# Altium footprint library Footprints.PcbLib: 96 footprints (part 4 of 6)
Each footprint in its own frame and in the unit in brackets; x right, y up, seen from the top. Pads: shape width x height; smd on the part's side, far side on the other; paste and mask are expansions set on the pad; w line width, h text height; cw(c..) or ccw(c..) is an arc to the next point about the centre after c.
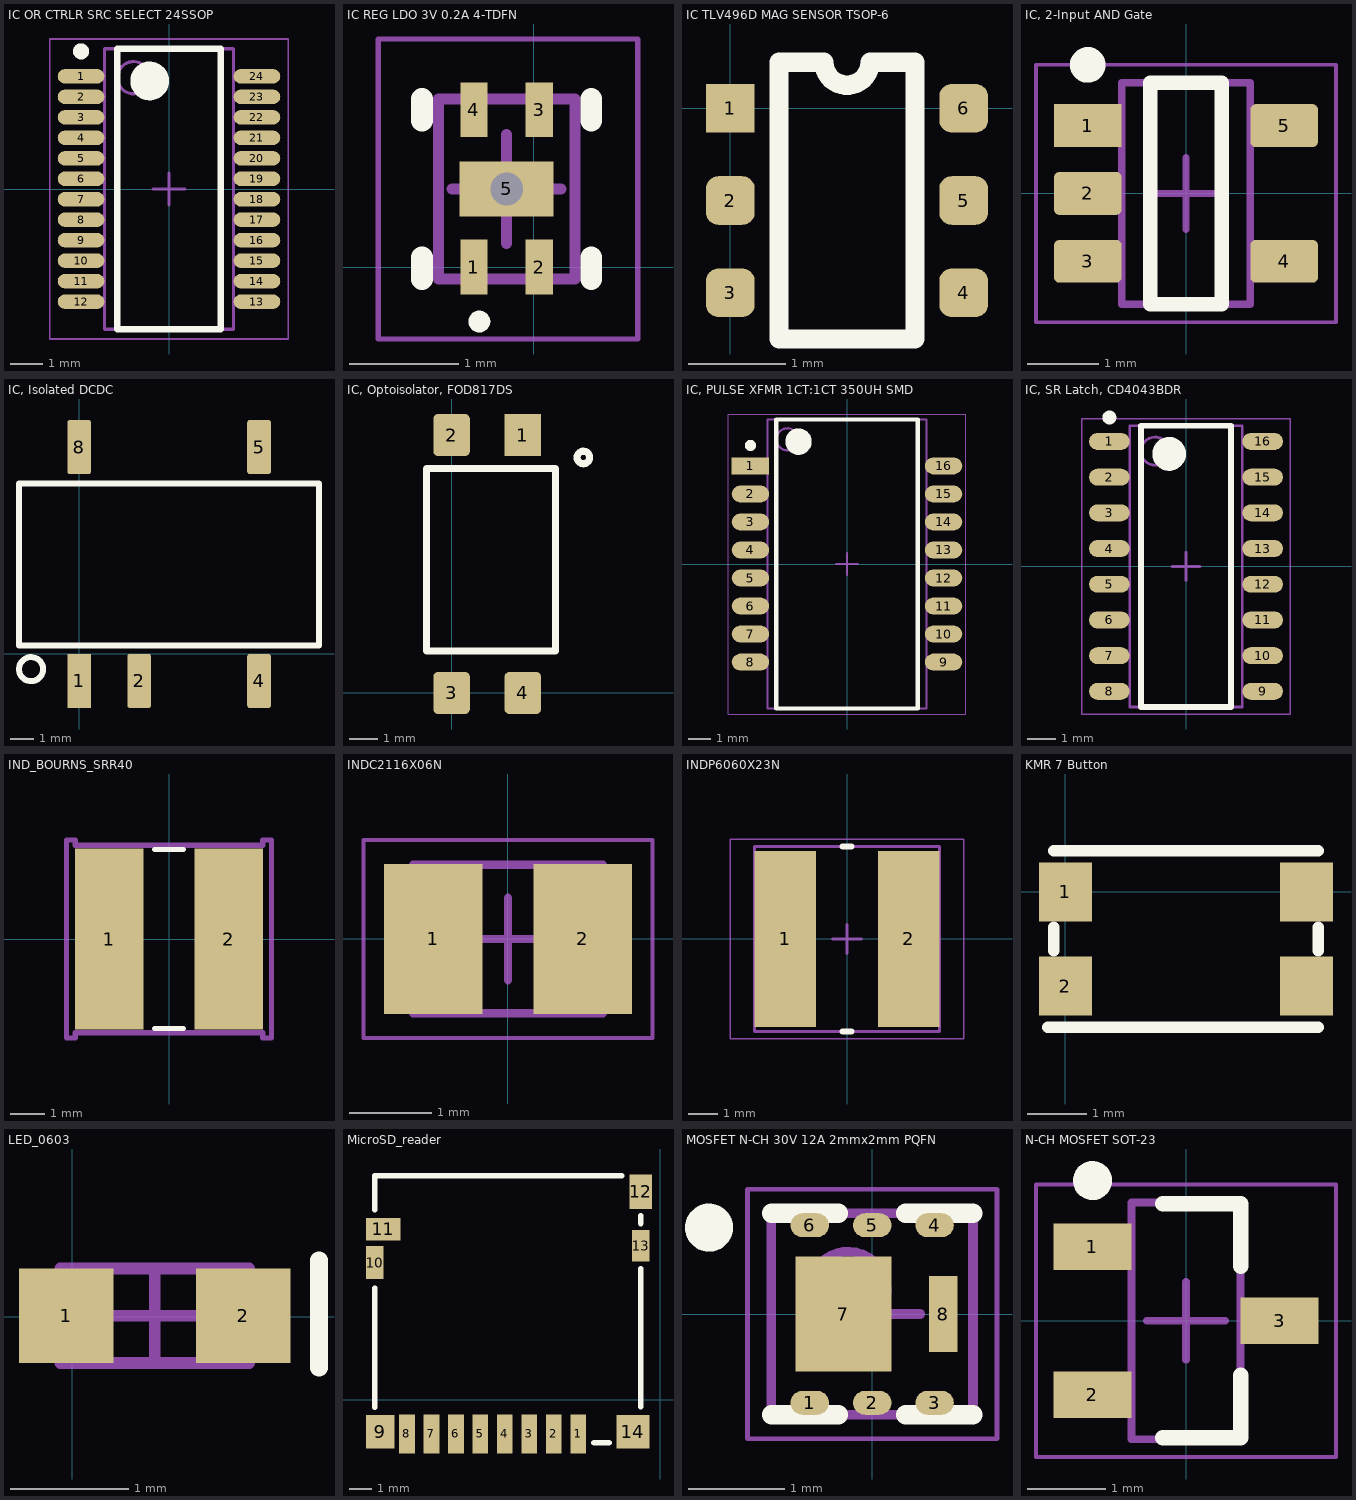
[diagram p3: the footprints below, top view; thin cyan lines are the x and y axes]

## IC OR CTRLR SRC SELECT 24SSOP [mm] "LTC4417"
height 1.75
pads (24):
  oval 1.45x0.45 smd: 1(-2.725,3.492) 2(-2.725,2.857) 3(-2.725,2.222) 4(-2.725,1.587) 5(-2.725,0.953) 6(-2.725,0.318) 7(-2.725,-0.318) 8(-2.725,-0.953) 9(-2.725,-1.587) 10(-2.725,-2.222) 11(-2.725,-2.857) 12(-2.725,-3.492) 13(2.725,-3.492) 14(2.725,-2.857) 15(2.725,-2.222) 16(2.725,-1.587) 17(2.725,-0.953) 18(2.725,-0.318) 19(2.725,0.318) 20(2.725,0.953) 21(2.725,1.587) 22(2.725,2.222) 23(2.725,2.857) 24(2.725,3.492)
Top Overlay:
  circle w0.6: c-0.6,3.35 r0.3
  circle w0.25: c-2.725,4.267 r0.125
  lines w0.2: -1.6,-4.35 1.6,-4.35 1.6,4.35 -1.6,4.35 -1.6,-4.35
Mechanical 13:
  circle w0.1: c-1.1,3.45 r0.5
  lines w0.1: -2,-4.35 2,-4.35 2,4.35 -2,4.35 -2,-4.35
Mechanical 15:
  lines w0.05: -3.7,-4.65 3.7,-4.65 3.7,4.65 -3.7,4.65 -3.7,-4.65
  lines w0.1: -0.5,0 0.5,0 ; 0,-0.5 0,0.5
3D body "IC OR CTRLR SRC SELECT 24SSOP.step": height 1.75, standoff 0, extent -3.004,-4.35 3.004,4.35

## IC REG LDO 3V 0.2A 4-TDFN [mm] "QFN, 4-Leads, Body 1.20x1.60mm, Pitch 0.50mm/1.40mm, Thermal Pad 0.86x0.50mm, IPC Medium Density"
height 0.6
pads (5):
  rect 0.25x0.5 smd: 1(-0.55,0) 2(0.05,0) 3(0.05,1.44) 4(-0.55,1.44)
  rect 0.86x0.5 smd: 5(-0.25,0.715)
via -0.25,0.715 diameter 0.35 hole 0.3
Top Overlay:
  circle w0.1: c-0.5,-0.5 r0.05
  lines w0.2: -1.025,-0.11 -1.025,0.09 ; -1.025,1.34 -1.025,1.54 ; 0.525,-0.11 0.525,0.09 ; 0.525,1.34 0.525,1.54
Mechanical 13:
  lines w0.1: -0.875,-0.11 0.375,-0.11 0.375,1.54 -0.875,1.54 -0.875,-0.11
Mechanical 15:
  lines w0.05: -1.425,-0.66 0.95,-0.66 0.95,2.09 -1.425,2.09 -1.425,-0.66
  lines w0.1: -0.75,0.715 0.25,0.715 ; -0.25,0.215 -0.25,1.215
3D body "IC REG LDO 3V 0.2A 4-TDFN.step": height 0.6, standoff 0, extent -0.875,-0.111 0.375,1.541

## IC TLV496D MAG SENSOR TSOP-6 [mm]
pads (6):
  rect 0.5x0.5 smd: 1(0,0)
  rrect50% 0.5x0.5 smd: 2(0,-0.95) 3(0,-1.9) 4(2.4,-1.9) 5(2.4,-0.95) 6(2.4,0)
Top Overlay:
  lines w0.2: 0.5,-2.375 1.9,-2.375 1.9,0.475 1.438,0.475 cw(c1.2,0.475) 0.962,0.475 0.5,0.475 0.5,-2.375

## IC, 2-Input AND Gate [mm] "IC GATE AND 1CH 2-INP 5-SSOP"
height 1.25
pads (5):
  rect 0.95x0.6 smd: 1(-1.375,0.95)
  rrect25% 0.95x0.6 smd: 2(-1.375,0) 3(-1.375,-0.95) 4(1.375,-0.95) 5(1.375,0.95)
Top Overlay:
  circle w0.25: c-1.375,1.8 r0.125
  lines w0.2: -0.5,-1.55 -0.5,1.55 0.5,1.55 0.5,-1.55 -0.5,-1.55
Mechanical 13:
  lines w0.1: -0.9,-1.55 -0.9,1.55 0.9,1.55 0.9,-1.55 -0.9,-1.55
Mechanical 15:
  lines w0.05: -2.1,-1.8 -2.1,1.8 2.1,1.8 2.1,-1.8 -2.1,-1.8
  lines w0.1: -0.5,0 0.5,0 ; 0,-0.5 0,0.5
3D body: height 1.25, standoff 0, extent -0.899,-1.549 0.899,1.549

## IC, Isolated DCDC [mm]
pads (5):
  rect 1x2.29 smd: 1(0,-1.15)
  rrect20% 1x2.29 smd: 2(2.54,-1.15) 4(7.62,-1.15) 5(7.62,8.76) 8(0,8.76)
Top Overlay:
  circle w0.254: c-2.04,-0.65 r0.51
  lines w0.254: -2.54,0.35 -2.54,7.22 10.16,7.22 10.16,0.35 -2.54,0.35
3D body: height 7, standoff 0.25, extent -2.539,0.351 10.159,7.219

## IC, Optoisolator, FOD817DS [mm]
pads (4):
  rect 1.3x1.5 smd: 1(2.54,9.2)
  rrect25% 1.3x1.5 smd: 2(0,9.2) 3(0,0) 4(2.54,0)
Top Overlay:
  circle w0.254: c4.7,8.4 r0.224
  lines w0.254: -0.9,1.5 3.7,1.5 3.7,8 -0.9,8 -0.9,1.5
3D body: height 3.5, standoff 0.85, extent -0.899,1.501 3.699,7.999

## IC, PULSE XFMR 1CT:1CT 350UH SMD [mm] "PULSE XFMR 1CT:1CT 350UH SMD"
height 5.9
pads (16):
  rect 1.7x0.76 smd: 1(-4.375,4.445)
  oval 1.7x0.76 smd: 2(-4.375,3.175) 3(-4.375,1.905) 4(-4.375,0.635) 5(-4.375,-0.635) 6(-4.375,-1.905) 7(-4.375,-3.175) 8(-4.375,-4.445) 9(4.375,-4.445) 10(4.375,-3.175) 11(4.375,-1.905) 12(4.375,-0.635) 13(4.375,0.635) 14(4.375,1.905) 15(4.375,3.175) 16(4.375,4.445)
Top Overlay:
  circle w0.25: c-4.375,5.375 r0.125
  circle w0.6: c-2.2,5.55 r0.3
  lines w0.2: -3.2,-6.55 -3.2,6.55 3.2,6.55 3.2,-6.55 -3.2,-6.55
Mechanical 13:
  circle w0.1: c-2.7,5.65 r0.5
  lines w0.1: -3.6,-6.55 -3.6,6.55 3.6,6.55 3.6,-6.55 -3.6,-6.55
Mechanical 15:
  lines w0.05: -5.375,-6.8 -5.375,6.8 5.375,6.8 5.375,-6.8 -5.375,-6.8
  lines w0.1: -0.5,0 0.5,0 ; 0,-0.5 0,0.5
3D body "1CT 350UH SMD.step": height 5.9, standoff 0, extent -4.65,-6.55 4.65,6.55

## IC, SR Latch, CD4043BDR [mm] "SR LATCH"
height 1.75
pads (16):
  oval 1.45x0.6 smd: 1(-2.725,4.445) 2(-2.725,3.175) 3(-2.725,1.905) 4(-2.725,0.635) 5(-2.725,-0.635) 6(-2.725,-1.905) 7(-2.725,-3.175) 8(-2.725,-4.445) 9(2.725,-4.445) 10(2.725,-3.175) 11(2.725,-1.905) 12(2.725,-0.635) 13(2.725,0.635) 14(2.725,1.905) 15(2.725,3.175) 16(2.725,4.445)
Top Overlay:
  circle w0.25: c-2.725,5.295 r0.125
  circle w0.6: c-0.6,4 r0.3
  lines w0.2: -1.6,-5 -1.6,5 1.6,5 1.6,-5 -1.6,-5
Mechanical 13:
  circle w0.1: c-1.1,4.1 r0.5
  lines w0.1: -2,-5 -2,5 2,5 2,-5 -2,-5
Mechanical 15:
  lines w0.05: -3.7,-5.25 -3.7,5.25 3.7,5.25 3.7,-5.25 -3.7,-5.25
  lines w0.1: -0.5,0 0.5,0 ; 0,-0.5 0,0.5
3D body: height 1.75, standoff 0.1, extent -2,-5 2,5

## IND_BOURNS_SRR40 [mil]
pads (2):
  rect 79x209 smd: 1(-69,0) 2(69,0)
Top Overlay:
  lines w6: -16.4,-103.5 16.4,-103.5 ; -16.4,103.5 16.4,103.5
Mechanical 13:
  circle w0: c-95.5,0 r3
Mechanical 15:
  lines w6: -118.5,-114.5 -118.5,114.5 -108.5,114.5 -108.5,108.5 108.5,108.5 108.5,114.5 118.5,114.5 118.5,-114.5 108.5,-114.5 108.5,-108.5 -108.5,-108.5 -108.5,-114.5 -118.5,-114.5
3D body "IND_BOURNS_SRR4018.stp": height 79, standoff 0, extent -98.5,-104.5 98.5,104.5

## INDC2116X06N [mm] "Chip Inductor, 2-Leads, Body 2.10x1.60mm, IPC Medium Density"
height 0.6
pads (2):
  rect 1.19x1.82 smd: 1(-0.905,0) 2(0.905,0)
Mechanical 13:
  lines w0.1: -1.15,-0.9 1.15,-0.9 1.15,0.9 -1.15,0.9 -1.15,-0.9
Mechanical 15:
  lines w0.05: -1.75,-1.2 1.75,-1.2 1.75,1.2 -1.75,1.2 -1.75,-1.2
  lines w0.1: -0.5,0 0.5,0 ; 0,-0.5 0,0.5
3D body "INDC2116X06N.step": height 0.6, standoff 0, extent -1.15,-0.9 1.15,0.9

## INDP6060X23N [mm] "Precision Wire Wound Inductor, 2-Leads, Body 6.00x6.00mm, IPC Medium Density"
height 2.29
pads (2):
  rect 2.1x6 smd: 1(-2.1,0) 2(2.1,0)
Top Overlay:
  lines w0.2: -0.15,-3.15 0.15,-3.15 ; -0.15,3.15 0.15,3.15
Mechanical 13:
  lines w0.1: -3.15,-3.15 -3.15,3.15 3.15,3.15 3.15,-3.15 -3.15,-3.15
Mechanical 15:
  lines w0.05: -3.975,-3.4 -3.975,3.4 3.975,3.4 3.975,-3.4 -3.975,-3.4
  lines w0.1: -0.5,0 0.5,0 ; 0,-0.5 0,0.5
3D body "INDP6060X23N.step": height 2.39, standoff 0, extent -3.1,-3 3.1,3

## KMR 7 Button [mm]
pads (4):
  rect 0.9x1 smd: 1(0,0) 2(0,-1.6) ""(4.1,-1.6) ""(4.1,0)
Top Overlay:
  lines w0.2: -0.3,-2.3 4.3,-2.3 ; -0.2,-1 -0.2,-0.6 ; -0.2,0.7 4.3,0.7 ; 4.3,-1 4.3,-0.6

## LED_0603 [mm]
pads (2):
  rect 0.8x0.8 smd: 1(-0.05,0.01) 2(1.45,0.01)
Top Overlay:
  lines w0.15: 2.09,-0.43 2.09,0.48
Mechanical 13:
  lines w0.1: -0.1,-0.39 1.5,-0.39 1.5,0.41 -0.1,0.41 -0.1,-0.39
Mechanical 15:
  lines w0.1: 0.3,0.01 1.1,0.01 ; 0.7,-0.39 0.7,0.41
3D body "DIOC1608X06N.step": height 0.55, standoff 0, extent -0.1,-0.39 1.5,0.41

## MicroSD_reader [mm]
pads (14):
  rect 0.7x1.75 smd: 1(-3.686,-1.534) 2(-4.786,-1.534) 3(-5.886,-1.534) 4(-6.986,-1.534) 5(-8.086,-1.534) 6(-9.186,-1.534) 7(-10.286,-1.534) 8(-11.386,-1.534)
  rect 1.3x1.5 smd: 9(-12.586,-1.434)
  rect 0.8x1.5 smd: 10(-12.836,6.166)
  rect 1.55x1 smd: 11(-12.461,7.666)
  rect 1x1.55 smd: 12(-0.886,9.341)
  rect 0.8x1.4 smd: 13(-0.886,6.916)
  rect 1.5x1.5 smd: 14(-1.236,-1.434)
Top Overlay:
  lines w0.254: -12.836,-0.334 -12.836,5.016 ; -12.836,8.541 -12.836,10.066 -5.111,10.066 -1.736,10.066 ; -2.986,-1.934 -2.311,-1.934 ; -0.886,-0.309 -0.886,5.891 ; -0.886,7.916 -0.886,8.266 ; -12.836,5.016 -12.836,5.016 ; -12.836,5.016 -12.836,5.016

## MOSFET N-CH 30V 12A 2mmx2mm PQFN [mm] "PQFN, 6-Leads, Body 2.00x2.00mm, Pitch 0.65mm/0.50mm, Thermal Pad 1.00x1.20mm, IPC Medium Density"
height 1
pads (8):
  oval 0.4x0.25 smd: 1(-0.65,-0.925) 2(0,-0.925) 3(0.65,-0.925) 4(0.65,0.925) 5(0,0.925) 6(-0.65,0.925)
  rect 1x1.2 smd: 7(-0.3,0)
  rect 0.3x0.79 smd: 8(0.74,0)
Top Overlay:
  circle w0.25: c-1.7,0.9 r0.125
  lines w0.2: -1.05,-1.05 -0.35,-1.05 ; -1.05,1.05 -0.35,1.05 ; 0.35,-1.05 1.05,-1.05 ; 0.35,1.05 1.05,1.05
Mechanical 13:
  circle w0.1: c-0.25,0.25 r0.4
  lines w0.1: -1.05,-1.05 -1.05,1.05 1.05,1.05 1.05,-1.05 -1.05,-1.05
Mechanical 15:
  lines w0.05: -1.3,-1.3 -1.3,1.3 1.3,1.3 1.3,-1.3 -1.3,-1.3
  lines w0.1: -0.5,0 0.5,0 ; 0,-0.5 0,0.5
3D body "MOSFET N-CH 30V 12A 2mmx2mm PQFN.step": height 1, standoff 0, extent -1.05,-1.05 1.05,1.05

## N-CH MOSFET SOT-23 [mm] "SI2318CDS-T1-GE3CT-ND"
height 1.12
pads (3):
  rect 1x0.6 smd: 1(-1.2,0.95) 2(-1.2,-0.95) 3(1.2,0)
Top Overlay:
  circle w0.25: c-1.2,1.8 r0.125
  lines w0.2: -0.3,-1.5 0.7,-1.5 0.7,-0.7 ; -0.3,1.5 0.7,1.5 0.7,0.7
Mechanical 13:
  lines w0.1: -0.7,-1.52 -0.7,1.52 0.7,1.52 0.7,-1.52 -0.7,-1.52
Mechanical 15:
  lines w0.05: -1.925,-1.75 -1.925,1.75 1.925,1.75 1.925,-1.75 -1.925,-1.75
  lines w0.1: -0.5,0 0.5,0 ; 0,-0.5 0,0.5
3D body: height 1.12, standoff 0.1, extent -0.7,-1.52 0.7,1.52